# Altium integrated library FSC Logic Clock Clock Support.IntLib: 5 symbols
Pins are listed as number, name and electrical type; pins without a type are passive.

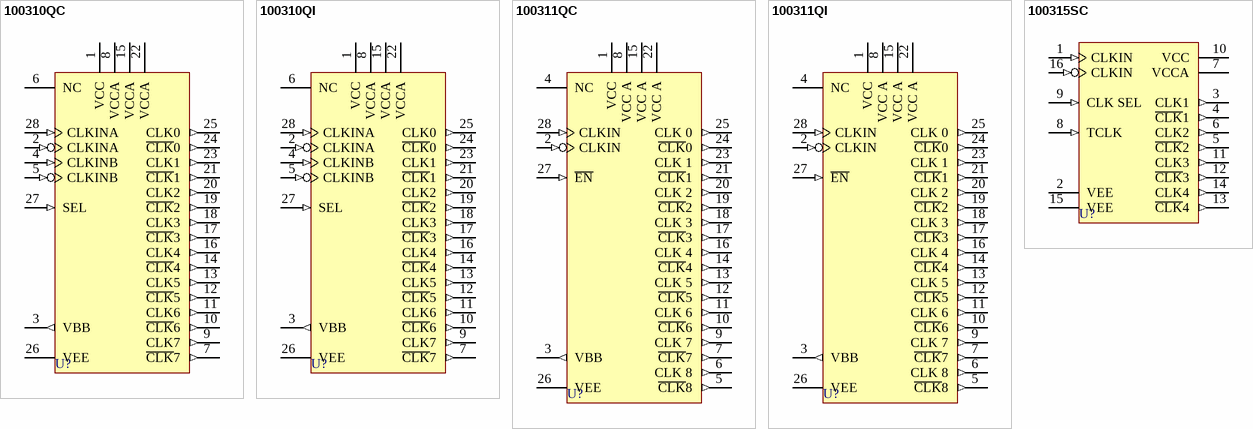
[diagram p0: symbols 100310QC to 100315SC]

## 100310QC
designator U?
Low Skew 2:8 Differential Clock Driver; Published: 17-Jul-2002; LatestRevisionDate: 13-Apr-2006; LatestRevisionNote: IPC-7351 Footprint Added.; DatasheetVersion: Nov-1999; PackageVersion: 2000; PackageReference: V28A; Publisher: Altium Limited; PackageDescription: 28-Pin Leaded Chip Carrier 1.27 mm Pitch; Code_IPC: PLCC-28; ComponentLink1Description: Manufacturer Link; ComponentLink1URL: http://www.fairchildsemi.com/
footprint V28A_N (Leaded Chip Carrier, 28-Leads, Body 11.5x11.5mm, Pitch 1.27mm, IPC Medium Density)
footprint V28A_L (Leaded Chip Carrier, 28-Leads, Body 11.5x11.5mm, Pitch 1.27mm, IPC High Density)
footprint V28A_M (Leaded Chip Carrier, 28-Leads, Body 11.5x11.5mm, Pitch 1.27mm, IPC Low Density)
3D model 100310-V28A (28-Pin Leaded Chip Carrier 1.27 mm Pitch)
pins: 1 VCC (power), 2 CLKINA (in), 3 VBB (out), 4 CLKINB (in), 5 CLKINB (in), 6 NC, 7 ~{CLK}7 (out), 8 VCCA (power), 9 CLK7 (out), 10 ~{CLK}6 (out), 11 CLK6 (out), 12 ~{CLK}5 (out), 13 CLK5 (out), 14 ~{CLK}4 (out), 15 VCCA (power), 16 CLK4 (out), 17 ~{CLK}3 (out), 18 CLK3 (out), 19 ~{CLK}2 (out), 20 CLK2 (out), 21 ~{CLK}1 (out), 22 VCCA (power), 23 CLK1 (out), 24 ~{CLK}0 (out), 25 CLK0 (out), 26 VEE (power), 27 SEL (in), 28 CLKINA (in)

## 100310QI
designator U?
Low Skew 2:8 Differential Clock Driver; Published: 17-Jul-2002; LatestRevisionDate: 13-Apr-2006; LatestRevisionNote: IPC-7351 Footprint Added.; DatasheetVersion: Nov-1999; PackageVersion: 2000; PackageReference: V28A; Publisher: Altium Limited; PackageDescription: 28-Pin Leaded Chip Carrier 1.27 mm Pitch; Code_IPC: PLCC-28; ComponentLink1Description: Manufacturer Link; ComponentLink1URL: http://www.fairchildsemi.com/
footprint V28A_N (Leaded Chip Carrier, 28-Leads, Body 11.5x11.5mm, Pitch 1.27mm, IPC Medium Density)
footprint V28A_L (Leaded Chip Carrier, 28-Leads, Body 11.5x11.5mm, Pitch 1.27mm, IPC High Density)
footprint V28A_M (Leaded Chip Carrier, 28-Leads, Body 11.5x11.5mm, Pitch 1.27mm, IPC Low Density)
3D model 100310-V28A (28-Pin Leaded Chip Carrier 1.27 mm Pitch)
pins: 1 VCC (power), 2 CLKINA (in), 3 VBB (out), 4 CLKINB (in), 5 CLKINB (in), 6 NC, 7 ~{CLK}7 (out), 8 VCCA (power), 9 CLK7 (out), 10 ~{CLK}6 (out), 11 CLK6 (out), 12 ~{CLK}5 (out), 13 CLK5 (out), 14 ~{CLK}4 (out), 15 VCCA (power), 16 CLK4 (out), 17 ~{CLK}3 (out), 18 CLK3 (out), 19 ~{CLK}2 (out), 20 CLK2 (out), 21 ~{CLK}1 (out), 22 VCCA (power), 23 CLK1 (out), 24 ~{CLK}0 (out), 25 CLK0 (out), 26 VEE (power), 27 SEL (in), 28 CLKINA (in)

## 100311QC
designator U?
Low Skew 1:9 Differential Clock Driver; Published: 17-Jul-2002; LatestRevisionDate: 13-Apr-2006; LatestRevisionNote: IPC-7351 Footprint Added.; DatasheetVersion: Nov-1999; PackageVersion: 2000; PackageReference: V28A; Publisher: Altium Limited; PackageDescription: 28-Pin Leaded Chip Carrier 1.27 mm Pitch; Code_IPC: PLCC-28; ComponentLink1Description: Manufacturer Link; ComponentLink1URL: http://www.fairchildsemi.com/; ComponentLink2Description: Datasheet; ComponentLink2URL: http://www.fairchildsemi.com/ds/10%2F100311.pdf
footprint V28A_N (Leaded Chip Carrier, 28-Leads, Body 11.5x11.5mm, Pitch 1.27mm, IPC Medium Density)
footprint V28A_L (Leaded Chip Carrier, 28-Leads, Body 11.5x11.5mm, Pitch 1.27mm, IPC High Density)
footprint V28A_M (Leaded Chip Carrier, 28-Leads, Body 11.5x11.5mm, Pitch 1.27mm, IPC Low Density)
3D model 100311-V28A (28-Pin Leaded Chip Carrier 1.27 mm Pitch)
pins: 1 VCC (power), 2 CLKIN (in), 3 VBB (out), 4 NC, 5 ~{CLK}8 (out), 6 CLK 8 (out), 7 ~{CLK}7 (out), 8 VCC A (power), 9 CLK 7 (out), 10 ~{CLK}6 (out), 11 CLK 6 (out), 12 ~{CLK}5 (out), 13 CLK 5 (out), 14 ~{CLK}4 (out), 15 VCC A (power), 16 CLK 4 (out), 17 ~{CLK}3 (out), 18 CLK 3 (out), 19 ~{CLK}2 (out), 20 CLK 2 (out), 21 ~{CLK}1 (out), 22 VCC A (power), 23 CLK 1 (out), 24 ~{CLK}0 (out), 25 CLK 0 (out), 26 VEE (power), 27 ~{EN} (in), 28 CLKIN (in)

## 100311QI
designator U?
Low Skew 1:9 Differential Clock Driver; Published: 17-Jul-2002; LatestRevisionDate: 13-Apr-2006; LatestRevisionNote: IPC-7351 Footprint Added.; DatasheetVersion: Nov-1999; PackageVersion: 2000; PackageReference: V28A; Publisher: Altium Limited; PackageDescription: 28-Pin Leaded Chip Carrier 1.27 mm Pitch; Code_IPC: PLCC-28; ComponentLink1Description: Manufacturer Link; ComponentLink1URL: http://www.fairchildsemi.com/; ComponentLink2Description: Datasheet; ComponentLink2URL: http://www.fairchildsemi.com/ds/10%2F100311.pdf
footprint V28A_N (Leaded Chip Carrier, 28-Leads, Body 11.5x11.5mm, Pitch 1.27mm, IPC Medium Density)
footprint V28A_L (Leaded Chip Carrier, 28-Leads, Body 11.5x11.5mm, Pitch 1.27mm, IPC High Density)
footprint V28A_M (Leaded Chip Carrier, 28-Leads, Body 11.5x11.5mm, Pitch 1.27mm, IPC Low Density)
3D model 100311-V28A (28-Pin Leaded Chip Carrier 1.27 mm Pitch)
pins: 1 VCC (power), 2 CLKIN (in), 3 VBB (out), 4 NC, 5 ~{CLK}8 (out), 6 CLK 8 (out), 7 ~{CLK}7 (out), 8 VCC A (power), 9 CLK 7 (out), 10 ~{CLK}6 (out), 11 CLK 6 (out), 12 ~{CLK}5 (out), 13 CLK 5 (out), 14 ~{CLK}4 (out), 15 VCC A (power), 16 CLK 4 (out), 17 ~{CLK}3 (out), 18 CLK 3 (out), 19 ~{CLK}2 (out), 20 CLK 2 (out), 21 ~{CLK}1 (out), 22 VCC A (power), 23 CLK 1 (out), 24 ~{CLK}0 (out), 25 CLK 0 (out), 26 VEE (power), 27 ~{EN} (in), 28 CLKIN (in)

## 100315SC
designator U?
Low-Skew Quad Clock Driver; Published: 17-Jul-2002; LatestRevisionDate: 13-Apr-2006; LatestRevisionNote: IPC-7351 Footprint Added.; DatasheetVersion: Nov-1999; PackageVersion: 2000; PackageReference: M16A; Publisher: Altium Limited; PackageDescription: 16-Pin Small Outline Integrated Circuit 1.27 mm Pitch; Code_IPC: SOIC127P600-16; ComponentLink1Description: Manufacturer Link; ComponentLink1URL: http://www.fairchildsemi.com/; ComponentLink2Description: Datasheet; ComponentLink2URL: http://www.fairchildsemi.com/ds/10%2F100315.pdf
footprint M16A_N (SOIC, 16-Leads, Body 9.9x3.9mm, Pitch 1.27mm, IPC Medium Density)
footprint M16A_L (SOIC, 16-Leads, Body 9.9x3.9mm, Pitch 1.27mm, IPC High Density)
footprint M16A_M (SOIC, 16-Leads, Body 9.9x3.9mm, Pitch 1.27mm, IPC Low Density)
3D model M16A (16-Pin Small Outline Integrated Circuit 1.27 mm Pitch)
pins: 1 CLKIN (in), 2 VEE (power), 3 CLK1 (out), 4 ~{CLK}1 (out), 5 ~{CLK}2 (out), 6 CLK2 (out), 7 VCCA (power), 8 TCLK (in), 9 CLK SEL (in), 10 VCC (power), 11 CLK3 (out), 12 ~{CLK}3 (out), 13 ~{CLK}4 (out), 14 CLK4 (out), 15 VEE (power), 16 CLKIN (in)